# Altium schematic symbol library AIGateway2.SchLib: 9 symbols
Pins are listed as number, name and electrical type; pins without a type are passive.

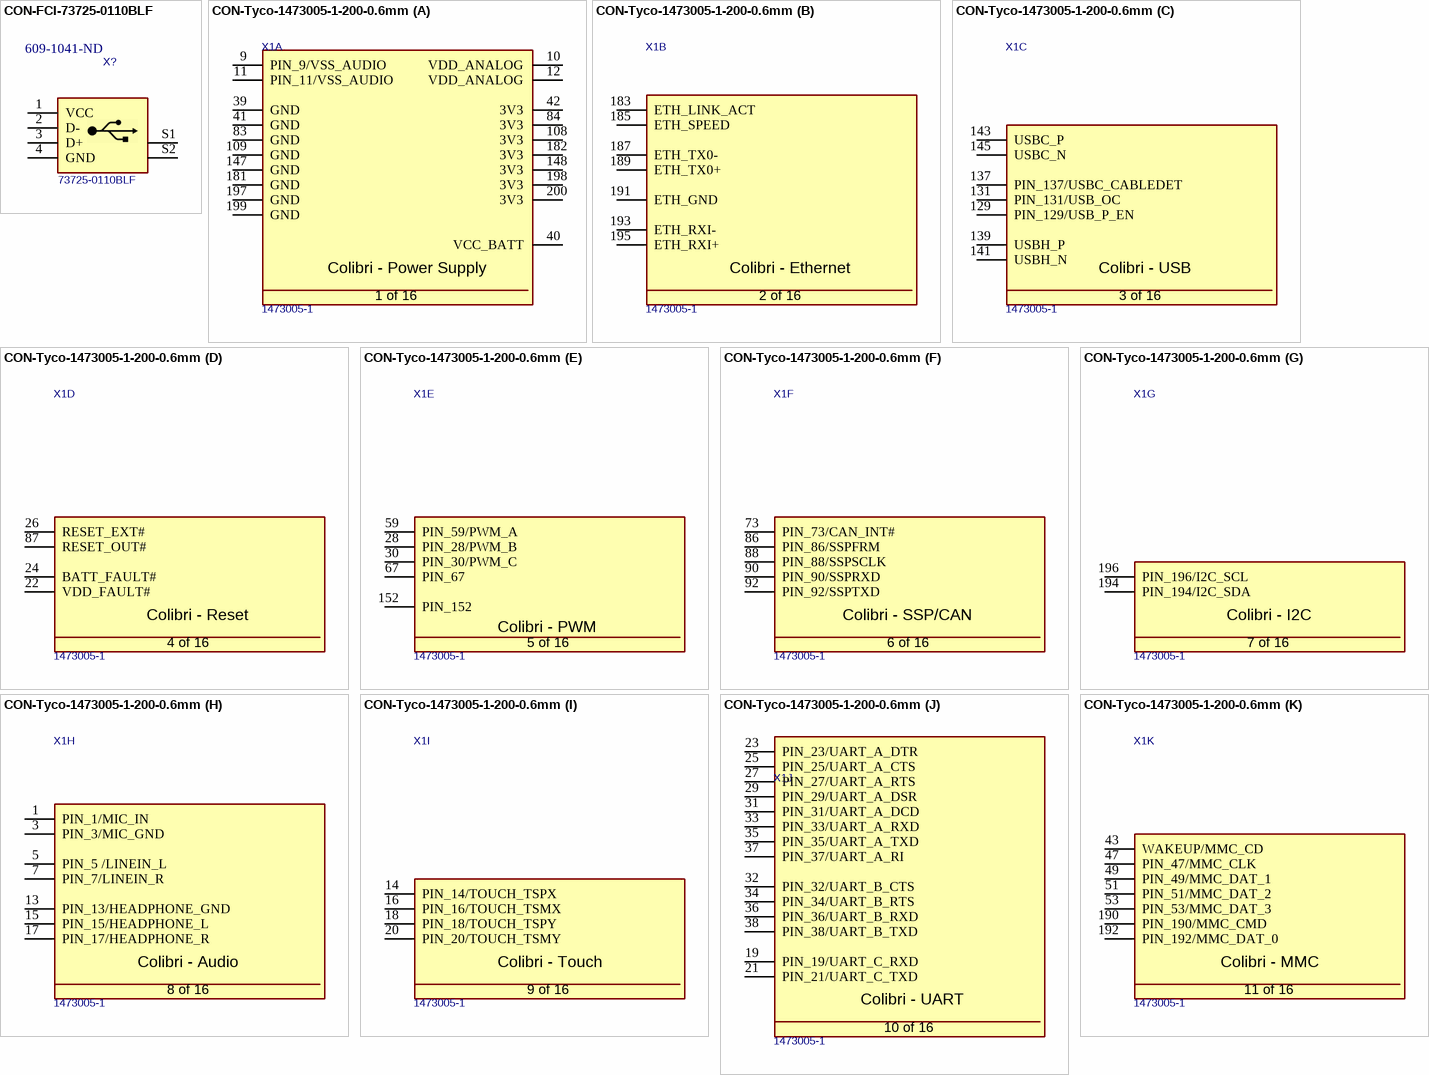
[diagram p0: symbols CON-FCI-73725-0110BLF to CON-Tyco-1473005-1-200-0.6mm]

## CON-FCI-73725-0110BLF
designator X?, comment Supplier Part Number 1: 609-1041-ND  (hidden comment: 73725-0110BLF)
USB Type A Connector; Manufacturer Name: FCI; No. of ways: 4; Supplier 1: Digi-Key; Manufacturer Part No.: 73725-0110BLF
footprint T_FCI_73725-0110BLF (USB Type A Connector Vertical)
pins: 1 VCC (power), 2 D-, 3 D+, 4 GND (power), S1, S2

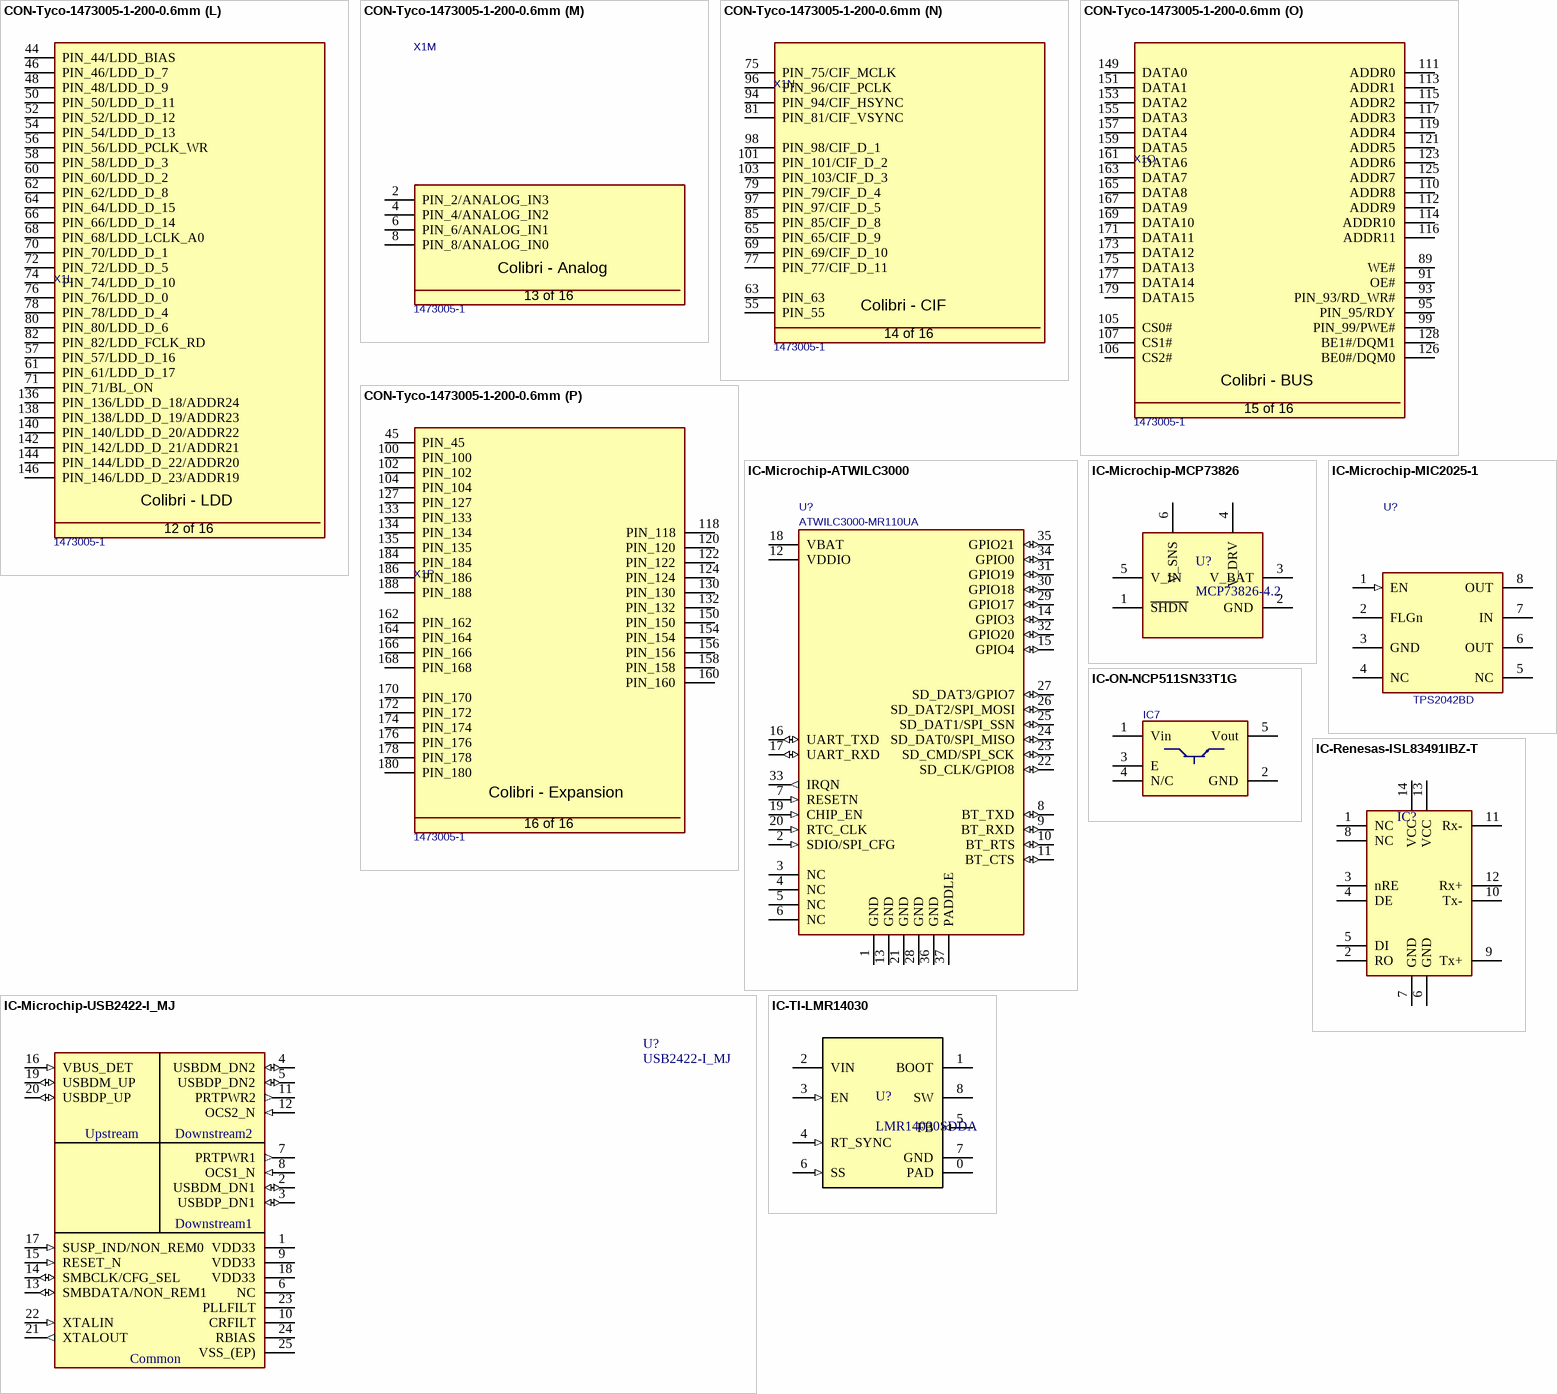
[diagram p1: symbols CON-Tyco-1473005-1-200-0.6mm to IC-TI-LMR14030]

## CON-Tyco-1473005-1-200-0.6mm
designator X1, comment 1473005-1
SODIMM Connector; Manufacturer Name: Tyco; No. of ways: 200; Manufacturer Part No.: 1473005-1
footprint T_Tyco_1473005-1 (SODIMM Connector)
part A pins: 9 PIN_9/VSS_AUDIO, 10 VDD_ANALOG, 11 PIN_11/VSS_AUDIO, 12 VDD_ANALOG, 39 GND (power), 40 VCC_BATT (power), 41 GND (power), 42 3V3 (power), 83 GND (power), 84 3V3 (power), 108 3V3, 109 GND (power), 147 GND (power), 148 3V3, 181 GND (power), 182 3V3 (power), 197 GND (power), 198 3V3 (power), 199 GND (power), 200 3V3 (power)
part B pins: 183 ETH_LINK_ACT, 185 ETH_SPEED, 187 ETH_TX0-, 189 ETH_TX0+, 191 ETH_GND, 193 ETH_RXI-, 195 ETH_RXI+
part C pins: 129 PIN_129/USB_P_EN, 131 PIN_131/USB_OC, 137 PIN_137/USBC_CABLEDET, 139 USBH_P, 141 USBH_N, 143 USBC_P, 145 USBC_N
part D pins: 22 VDD_FAULT#, 24 BATT_FAULT#, 26 RESET_EXT#, 87 RESET_OUT#
part E pins: 28 PIN_28/PWM_B, 30 PIN_30/PWM_C, 59 PIN_59/PWM_A, 67 PIN_67, 152 PIN_152
part F pins: 73 PIN_73/CAN_INT#, 86 PIN_86/SSPFRM, 88 PIN_88/SSPSCLK, 90 PIN_90/SSPRXD, 92 PIN_92/SSPTXD
part G pins: 194 PIN_194/I2C_SDA, 196 PIN_196/I2C_SCL
part H pins: 1 PIN_1/MIC_IN, 3 PIN_3/MIC_GND, 5 PIN_5 /LINEIN_L, 7 PIN_7/LINEIN_R, 13 PIN_13/HEADPHONE_GND, 15 PIN_15/HEADPHONE_L, 17 PIN_17/HEADPHONE_R
part I pins: 14 PIN_14/TOUCH_TSPX, 16 PIN_16/TOUCH_TSMX, 18 PIN_18/TOUCH_TSPY, 20 PIN_20/TOUCH_TSMY
part J pins: 19 PIN_19/UART_C_RXD, 21 PIN_21/UART_C_TXD, 23 PIN_23/UART_A_DTR, 25 PIN_25/UART_A_CTS, 27 PIN_27/UART_A_RTS, 29 PIN_29/UART_A_DSR, 31 PIN_31/UART_A_DCD, 32 PIN_32/UART_B_CTS, 33 PIN_33/UART_A_RXD, 34 PIN_34/UART_B_RTS, 35 PIN_35/UART_A_TXD, 36 PIN_36/UART_B_RXD, 37 PIN_37/UART_A_RI, 38 PIN_38/UART_B_TXD
part K pins: 43 WAKEUP/MMC_CD, 47 PIN_47/MMC_CLK, 49 PIN_49/MMC_DAT_1, 51 PIN_51/MMC_DAT_2, 53 PIN_53/MMC_DAT_3, 190 PIN_190/MMC_CMD, 192 PIN_192/MMC_DAT_0
part L pins: 44 PIN_44/LDD_BIAS, 46 PIN_46/LDD_D_7, 48 PIN_48/LDD_D_9, 50 PIN_50/LDD_D_11, 52 PIN_52/LDD_D_12, 54 PIN_54/LDD_D_13, 56 PIN_56/LDD_PCLK_WR, 57 PIN_57/LDD_D_16, 58 PIN_58/LDD_D_3, 60 PIN_60/LDD_D_2, 61 PIN_61/LDD_D_17, 62 PIN_62/LDD_D_8, 64 PIN_64/LDD_D_15, 66 PIN_66/LDD_D_14, 68 PIN_68/LDD_LCLK_A0, 70 PIN_70/LDD_D_1, 71 PIN_71/BL_ON, 72 PIN_72/LDD_D_5, 74 PIN_74/LDD_D_10, 76 PIN_76/LDD_D_0, 78 PIN_78/LDD_D_4, 80 PIN_80/LDD_D_6, 82 PIN_82/LDD_FCLK_RD, 136 PIN_136/LDD_D_18/ADDR24, 138 PIN_138/LDD_D_19/ADDR23, 140 PIN_140/LDD_D_20/ADDR22, 142 PIN_142/LDD_D_21/ADDR21, 144 PIN_144/LDD_D_22/ADDR20, 146 PIN_146/LDD_D_23/ADDR19
part M pins: 2 PIN_2/ANALOG_IN3, 4 PIN_4/ANALOG_IN2, 6 PIN_6/ANALOG_IN1, 8 PIN_8/ANALOG_IN0
part N pins: 55 PIN_55, 63 PIN_63, 65 PIN_65/CIF_D_9, 69 PIN_69/CIF_D_10, 75 PIN_75/CIF_MCLK, 77 PIN_77/CIF_D_11, 79 PIN_79/CIF_D_4, 81 PIN_81/CIF_VSYNC, 85 PIN_85/CIF_D_8, 94 PIN_94/CIF_HSYNC, 96 PIN_96/CIF_PCLK, 97 PIN_97/CIF_D_5, 98 PIN_98/CIF_D_1, 101 PIN_101/CIF_D_2, 103 PIN_103/CIF_D_3
part O pins: 89 WE#, 91 OE#, 93 PIN_93/RD_WR#, 95 PIN_95/RDY, 99 PIN_99/PWE#, 105 CS0#, 106 CS2#, 107 CS1#, 110 ADDR8, 111 ADDR0, 112 ADDR9, 113 ADDR1, 114 ADDR10, 115 ADDR2, 116 ADDR11, 117 ADDR3, 119 ADDR4, 121 ADDR5, 123 ADDR6, 125 ADDR7, 126 BE0#/DQM0, 128 BE1#/DQM1, 149 DATA0, 151 DATA1, 153 DATA2, 155 DATA3, 157 DATA4, 159 DATA5, 161 DATA6, 163 DATA7, 165 DATA8, 167 DATA9, 169 DATA10, 171 DATA11, 173 DATA12, 175 DATA13, 177 DATA14, 179 DATA15
part P pins: 45 PIN_45, 100 PIN_100, 102 PIN_102, 104 PIN_104, 118 PIN_118, 120 PIN_120, 122 PIN_122, 124 PIN_124, 127 PIN_127, 130 PIN_130, 132 PIN_132, 133 PIN_133, 134 PIN_134, 135 PIN_135, 150 PIN_150, 154 PIN_154, 156 PIN_156, 158 PIN_158, 160 PIN_160, 162 PIN_162, 164 PIN_164, 166 PIN_166, 168 PIN_168, 170 PIN_170, 172 PIN_172, 174 PIN_174, 176 PIN_176, 178 PIN_178, 180 PIN_180, 184 PIN_184, 186 PIN_186, 188 PIN_188
part A text: Colibri - Power Supply; 1 of 16
part B text: Colibri - Ethernet; 2 of 16
part C text: Colibri - USB; 3 of 16
part D text: Colibri - Reset; 4 of 16
part E text: Colibri - PWM; 5 of 16
part F text: Colibri - SSP/CAN; 6 of 16
part G text: Colibri - I2C; 7 of 16
part H text: Colibri - Audio; 8 of 16
part I text: Colibri - Touch; 9 of 16
part J text: Colibri - UART; 10 of 16
part K text: Colibri - MMC; 11 of 16
part L text: Colibri - LDD; 12 of 16
part M text: Colibri - Analog; 13 of 16
part N text: Colibri - CIF; 14 of 16
part O text: Colibri - BUS; 15 of 16
part P text: Colibri - Expansion; 16 of 16

## IC-Microchip-ATWILC3000
designator U?, comment ATWILC3000-MR110UA
BlueTooth, WiFi 802.11b/g/n, BlueTooth v4.0 Módulos de transceptor RF 2.4GHz Antena no incluida, U.FL Montaje en superficie; FP_DESC: ATWILC3000-MR110CA Module; MFG: MICROCHIP; Replacement Allowed: No; Footprint Checked: -; MFG_PN: ATWILC3000-MR110UA; Symbol Checked: -; Supplier 1: Digi-Key; Supplier Part Number 1: ATWILC3000-MR110UA-ND
footprint ATWILC3000-MR110CA
pins: 1 GND (power), 2 SDIO/SPI_CFG (in), 3 NC, 4 NC, 5 NC, 6 NC, 7 RESETN (in), 8 BT_TXD (io), 9 BT_RXD (io), 10 BT_RTS (io), 11 BT_CTS (io), 12 VDDIO (power), 13 GND (power), 14 GPIO3 (io), 15 GPIO4 (io), 16 UART_TXD (io), 17 UART_RXD (io), 18 VBAT (power), 19 CHIP_EN (in), 20 RTC_CLK (in), 21 GND (power), 22 SD_CLK/GPIO8 (io), 23 SD_CMD/SPI_SCK (io), 24 SD_DAT0/SPI_MISO (io), 25 SD_DAT1/SPI_SSN (io), 26 SD_DAT2/SPI_MOSI (io), 27 SD_DAT3/GPIO7 (io), 28 GND (power), 29 GPIO17 (io), 30 GPIO18 (io), 31 GPIO19 (io), 32 GPIO20 (io), 33 IRQN (out), 34 GPIO0 (io), 35 GPIO21 (io), 36 GND (power), 37 PADDLE (power)

## IC-Microchip-MCP73826
designator U?, comment MCP73826-4.2
Charger IC Lithium Ion SOT-23-6; Supplier 1: Digi-Key; Supplier 2: Digi-Key; Supplier Part Number 1: MCP73826-4.2VCHCT-ND; Supplier Part Number 2: MCP73826-4.2VCHDKR-ND; Footprint Checked: -; Manufacturer Part Number: MCP73826-4.2; Symbol Checked: -; Footprint Description: SOT-23-6
footprint SOT95P284X122-6N (SOT23, 6-Leads)
pins: 1 ~{SHDN}, 2 GND, 3 V_BAT, 4 V_DRV, 5 V_IN, 6 V_SNS

## IC-Microchip-MIC2025-1
designator U?, comment Manufacturer Part No.: TPS2042BD  (hidden comment: MIC2025-1)
Power Switch/Driver 1:1 N-Channel 500mA 8-MSOP; Manufacturer Name: Texas Instruments; Symbol Checked: T; Supplier 1: Digi-Key; Supplier Part Number 1: MIC2025-1YM-CT-ND; Footprint Checked: -
footprint SOIC127P600X173-8N
pins: 1 EN (in), 2 FLGn (oc), 3 GND (power), 4 NC (hiz), 5 NC (hiz), 6 OUT (power), 7 IN (power), 8 OUT (power)

## IC-Microchip-USB2422-I_MJ
designator U?, comment USB2422-I_MJ
USB Hub Controller USB 2.0 USB Interface 24-QFN (4x4); Manufacturer_Name: Microchip; Manufacturer_Part_Number: USB2422-I/MJ; Datasheet Link: http://docs-emea.rs-online.com/webdocs/12de/0900766b812ded94.pdf; Height: 1mm; Arrow Price/Stock: https://www.arrow.com/en/products/usb2422-imj/microchip-technology; Mouser Price/Stock: https://www.mouser.co.uk/ProductDetail/Microchip-Technology/USB2422-I-MJ?qs=eTPcRhULBzzm1uvzgv8YJg%3D%3D; Supplier 1: Digi-Key; Supplier Part Number 1: USB2422-I/MJ-ND; Arrow Part Number: USB2422-I/MJ
footprint QFN50P400X400X80-25N (QFN,0.50mm pitch,square;24 pin,4.00mm L X 4.00mm W X 0.75mm H body (w/thermal tab))
pins: 1 VDD33 (power), 2 USBDM_DN1 (io), 3 USBDP_DN1 (io), 4 USBDM_DN2 (io), 5 USBDP_DN2 (io), 6 NC, 7 PRTPWR1 (out), 8 OCS1_N (in), 9 VDD33 (power), 10 CRFILT, 11 PRTPWR2 (out), 12 OCS2_N (in), 13 SMBDATA/NON_REM1 (io), 14 SMBCLK/CFG_SEL (io), 15 RESET_N (in), 16 VBUS_DET (in), 17 SUSP_IND/NON_REM0 (in), 18 VDD33 (power), 19 USBDM_UP (io), 20 USBDP_UP (io), 21 XTALOUT (out), 22 XTALIN (in), 23 PLLFILT, 24 RBIAS, 25 VSS_(EP) (power)
text: Upstream; Downstream2; Downstream1; Common

## IC-ON-NCP511SN33T1G
designator IC7, comment NCP511SN33T1G  (value not drawn)
NCP511SN33T1G LDO Regulator; Manufacturer Name: ON Semiconductor; Supplier 1: Digi-Key; Manufacturer Part No.: NCP511SN33T1G; Supplier Part Number 1: NCP511SN33T1GOSCT-ND; Footprint Checked: -; Symbol Checked: -
footprint SOT95P279X142-5N
pins: 1 Vin, 2 GND, 3 E, 4 N/C, 5 Vout

## IC-Renesas-ISL83491IBZ-T
designator IC?, comment ISL83491IBZ-T  (value not drawn)
Transceptor 1/1 Completo RS422, RS485 14-SOIC; Manufacturer Name: Renesas Electronics America Inc; Manufacturer Part No.: ISL83491IBZ-T; Supplier 1: Digi-Key; Supplier Part Number 1: ISL83491IBZ-TCT-ND; Symbol Checked: -; Footprint Checked: -
footprint SOIC127P600X175-14N (SOIC 14 pin)
pins: 1 NC, 2 RO, 3 nRE, 4 DE, 5 DI, 6 GND, 7 GND, 8 NC, 9 Tx+, 10 Tx-, 11 Rx-, 12 Rx+, 13 VCC, 14 VCC

## IC-TI-LMR14030
designator U?, comment LMR14030SDDA
Buck Switching Regulator IC Positive Adjustable 0.8V 1 Output 3.5A 8-PowerSOIC (0.154", 3.90mm Width); Manufacturer: Texas Instruments; PartNumber: LMR14030; RefDes: RefDes; Type: DEV; Value: Value; Copyright: Copyright (C) 2018 Accelerated Designs. All rights reserved; Supplier 1: Digi-Key; Supplier Part Number 1: 296-44321-1-ND
footprint SOIC127P600X175-9AN-2 (SOIC,1.27mm,pitch;8 pin,3.90mm W X 4.90mm L X 1.75mm H body (w/thermal tab))
pins: 0 PAD (power), 1 BOOT (power), 2 VIN (power), 3 EN (in), 4 RT_SYNC (in), 5 FB (in), 6 SS (in), 7 GND (power), 8 SW (power)